# Altium footprint library SOP.PcbLib: 214 footprints (part 4 of 14)
Each footprint in its own frame and in the unit in brackets; x right, y up, seen from the top. Pads: shape width x height; smd on the part's side, far side on the other; paste and mask are expansions set on the pad; w line width, h text height; cw(c..) or ccw(c..) is an arc to the next point about the centre after c.
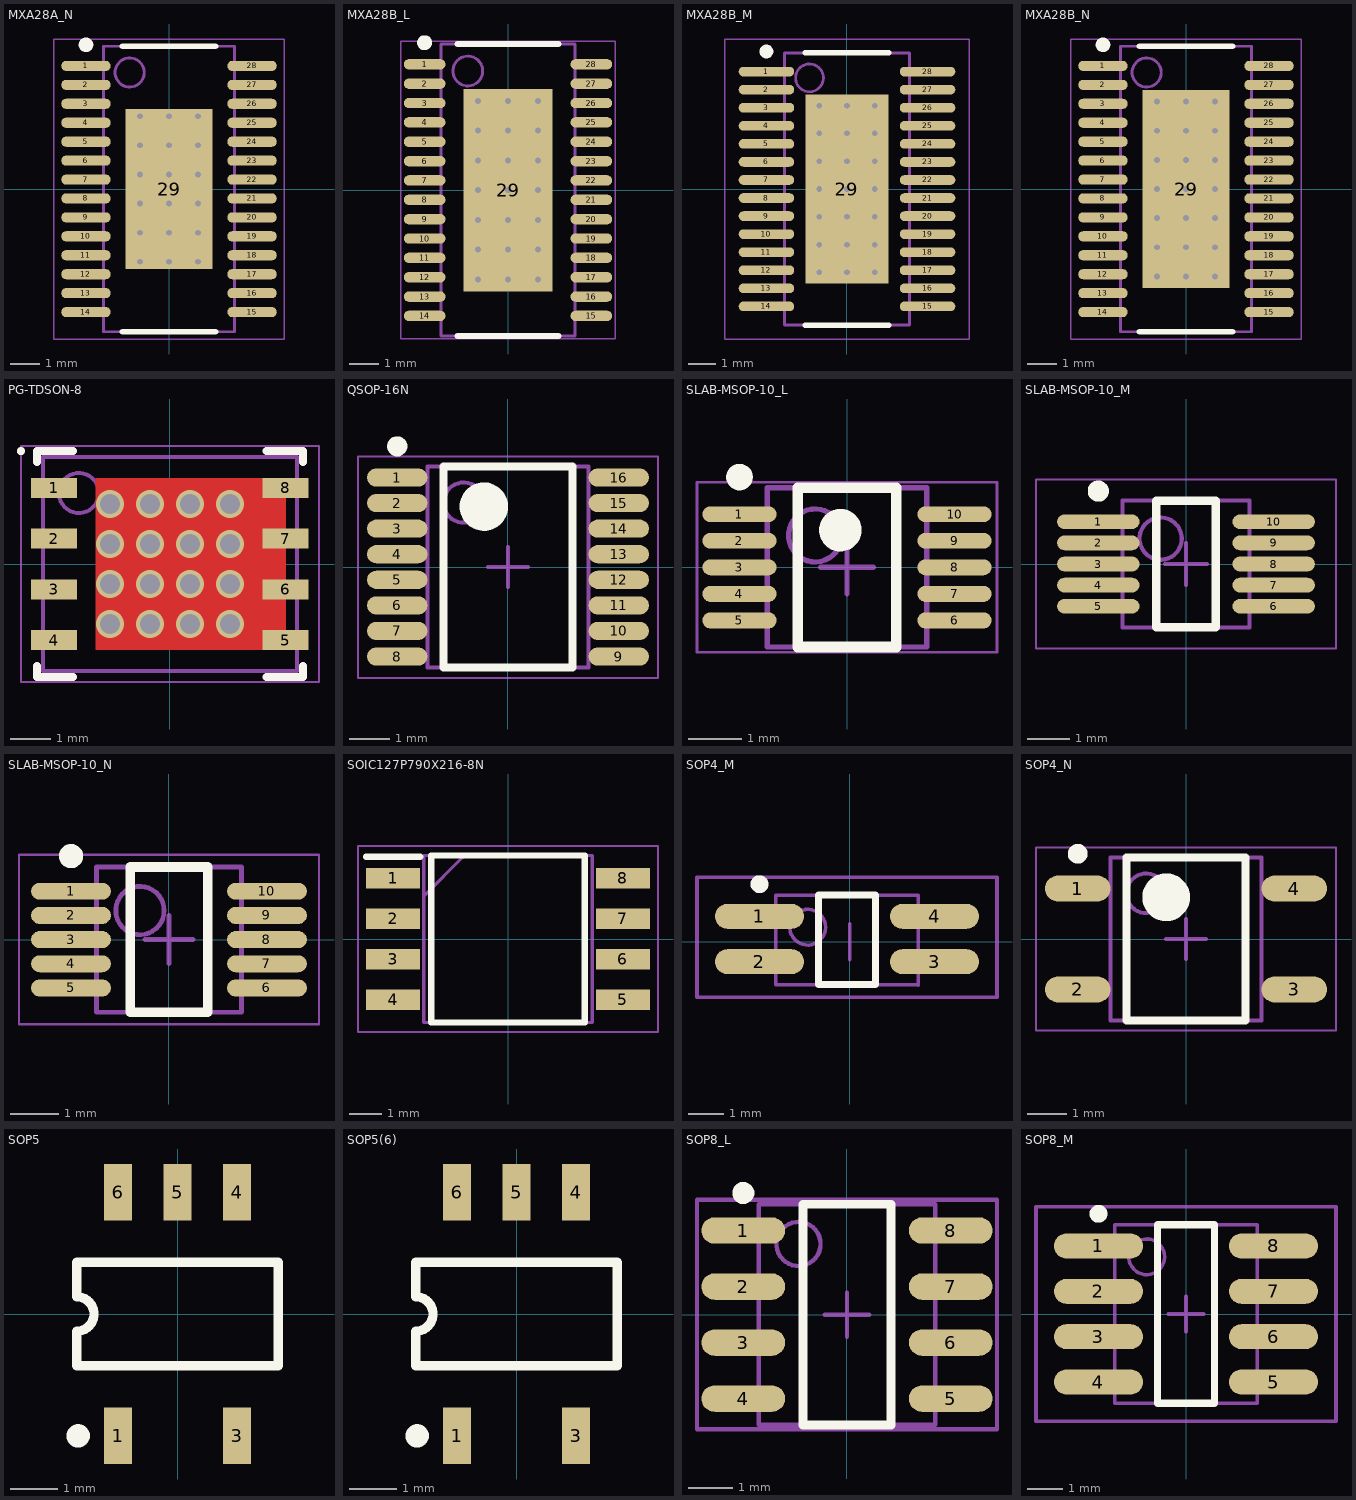
[diagram p3: the footprints below, top view; thin cyan lines are the x and y axes]

## MXA28A_N [mm] "TSOP, 28-Leads, Body 9.7x4.4mm, Pitch 0.65mm, Thermal Pad, IPC Medium Density"
height 1.1
pads (29):
  oval 1.7x0.35 smd: 1(-2.85,4.225) 2(-2.85,3.575) 3(-2.85,2.925) 4(-2.85,2.275) 5(-2.85,1.625) 6(-2.85,0.975) 7(-2.85,0.325) 8(-2.85,-0.325) 9(-2.85,-0.975) 10(-2.85,-1.625) 11(-2.85,-2.275) 12(-2.85,-2.925) 13(-2.85,-3.575) 14(-2.85,-4.225) 15(2.85,-4.225) 16(2.85,-3.575) 17(2.85,-2.925) 18(2.85,-2.275) 19(2.85,-1.625) 20(2.85,-0.975) 21(2.85,-0.325) 22(2.85,0.325) 23(2.85,0.975) 24(2.85,1.625) 25(2.85,2.275) 26(2.85,2.925) 27(2.85,3.575) 28(2.85,4.225)
  rect 3x5.5 smd: 29(0,0)
via 1,2.5 diameter 0.4 hole 0.2
via 0,2.5 diameter 0.4 hole 0.2
via -1,2.5 diameter 0.4 hole 0.2
via -1,0.5 diameter 0.4 hole 0.2
via -1,-0.5 diameter 0.4 hole 0.2
via -1,-1.5 diameter 0.4 hole 0.2
via -1,1.5 diameter 0.4 hole 0.2
via -1,-2.5 diameter 0.4 hole 0.2
via 0,-2.5 diameter 0.4 hole 0.2
via 1,-2.5 diameter 0.4 hole 0.2
via 0,1.5 diameter 0.4 hole 0.2
via 1,1.5 diameter 0.4 hole 0.2
via 1,-1.5 diameter 0.4 hole 0.2
via 0,-1.5 diameter 0.4 hole 0.2
via 1,-0.5 diameter 0.4 hole 0.2
via 0,-0.5 diameter 0.4 hole 0.2
via 1,0.5 diameter 0.4 hole 0.2
via 0,0.5 diameter 0.4 hole 0.2
Top Overlay:
  circle w0.25: c-2.85,4.95 r0.125
  lines w0.2: -1.6,-4.9 1.6,-4.9 ; -1.6,4.9 1.6,4.9
Mechanical 13:
  circle w0.1: c-1.35,4 r0.5
  lines w0.1: -2.25,-4.9 -2.25,4.9 2.25,4.9 2.25,-4.9 -2.25,-4.9
Mechanical 15:
  lines w0.05: -3.95,-5.15 -3.95,5.15 3.95,5.15 3.95,-5.15 -3.95,-5.15
  lines w0.1: -0.5,0 0.5,0 ; 0,-0.5 0,0.5
3D body: height 1.1, standoff 0.05, extent -2.25,-4.9 2.25,4.9

## MXA28B_L [mm] "TSOP, 28-Leads, Body 9.7x4.4mm, Pitch 0.65mm, Thermal Pad, IPC High Density"
height 1.1
pads (29):
  oval 1.4x0.35 smd: 1(-2.8,4.225) 2(-2.8,3.575) 3(-2.8,2.925) 4(-2.8,2.275) 5(-2.8,1.625) 6(-2.8,0.975) 7(-2.8,0.325) 8(-2.8,-0.325) 9(-2.8,-0.975) 10(-2.8,-1.625) 11(-2.8,-2.275) 12(-2.8,-2.925) 13(-2.8,-3.575) 14(-2.8,-4.225) 15(2.8,-4.225) 16(2.8,-3.575) 17(2.8,-2.925) 18(2.8,-2.275) 19(2.8,-1.625) 20(2.8,-0.975) 21(2.8,-0.325) 22(2.8,0.325) 23(2.8,0.975) 24(2.8,1.625) 25(2.8,2.275) 26(2.8,2.925) 27(2.8,3.575) 28(2.8,4.225)
  rect 3x6.8 smd: 29(0,0)
via 1,2 diameter 0.4 hole 0.2
via 0,2 diameter 0.4 hole 0.2
via -1,2 diameter 0.4 hole 0.2
via -1,0 diameter 0.4 hole 0.2
via -1,-1 diameter 0.4 hole 0.2
via -1,-2 diameter 0.4 hole 0.2
via -1,1 diameter 0.4 hole 0.2
via -1,-3 diameter 0.4 hole 0.2
via 0,-3 diameter 0.4 hole 0.2
via 1,-3 diameter 0.4 hole 0.2
via 0,1 diameter 0.4 hole 0.2
via 1,1 diameter 0.4 hole 0.2
via 1,-2 diameter 0.4 hole 0.2
via 0,-2 diameter 0.4 hole 0.2
via 1,-1 diameter 0.4 hole 0.2
via 0,-1 diameter 0.4 hole 0.2
via 1,0 diameter 0.4 hole 0.2
via 0,0 diameter 0.4 hole 0.2
via -1,3 diameter 0.4 hole 0.2
via 0,3 diameter 0.4 hole 0.2
via 1,3 diameter 0.4 hole 0.2
Top Overlay:
  circle w0.25: c-2.8,4.95 r0.125
  lines w0.2: -1.7,-4.9 1.7,-4.9 ; -1.7,4.9 1.7,4.9
Mechanical 13:
  circle w0.1: c-1.35,4 r0.5
  lines w0.1: -2.25,-4.9 2.25,-4.9 2.25,4.9 -2.25,4.9 -2.25,-4.9
Mechanical 15:
  lines w0.05: -3.6,-5 3.6,-5 3.6,5 -3.6,5 -3.6,-5
  lines w0.1: -0.5,0 0.5,0 ; 0,-0.5 0,0.5
3D body: height 1.1, standoff 0.05, extent -2.25,-4.9 2.25,4.9

## MXA28B_M [mm] "TSOP, 28-Leads, Body 9.7x4.4mm, Pitch 0.65mm, Thermal Pad, IPC Low Density"
height 1.1
pads (29):
  oval 2x0.35 smd: 1(-2.9,4.225) 2(-2.9,3.575) 3(-2.9,2.925) 4(-2.9,2.275) 5(-2.9,1.625) 6(-2.9,0.975) 7(-2.9,0.325) 8(-2.9,-0.325) 9(-2.9,-0.975) 10(-2.9,-1.625) 11(-2.9,-2.275) 12(-2.9,-2.925) 13(-2.9,-3.575) 14(-2.9,-4.225) 15(2.9,-4.225) 16(2.9,-3.575) 17(2.9,-2.925) 18(2.9,-2.275) 19(2.9,-1.625) 20(2.9,-0.975) 21(2.9,-0.325) 22(2.9,0.325) 23(2.9,0.975) 24(2.9,1.625) 25(2.9,2.275) 26(2.9,2.925) 27(2.9,3.575) 28(2.9,4.225)
  rect 3x6.8 smd: 29(0,0)
via 1,3 diameter 0.4 hole 0.2
via 0,3 diameter 0.4 hole 0.2
via -1,3 diameter 0.4 hole 0.2
via 0,0 diameter 0.4 hole 0.2
via 1,0 diameter 0.4 hole 0.2
via 0,-1 diameter 0.4 hole 0.2
via 1,-1 diameter 0.4 hole 0.2
via 0,-2 diameter 0.4 hole 0.2
via 1,-2 diameter 0.4 hole 0.2
via 1,1 diameter 0.4 hole 0.2
via 0,1 diameter 0.4 hole 0.2
via 1,-3 diameter 0.4 hole 0.2
via 0,-3 diameter 0.4 hole 0.2
via -1,-3 diameter 0.4 hole 0.2
via -1,1 diameter 0.4 hole 0.2
via -1,-2 diameter 0.4 hole 0.2
via -1,-1 diameter 0.4 hole 0.2
via -1,0 diameter 0.4 hole 0.2
via -1,2 diameter 0.4 hole 0.2
via 0,2 diameter 0.4 hole 0.2
via 1,2 diameter 0.4 hole 0.2
Top Overlay:
  circle w0.25: c-2.9,4.95 r0.125
  lines w0.2: -1.5,-4.9 1.5,-4.9 ; -1.5,4.9 1.5,4.9
Mechanical 13:
  circle w0.1: c-1.35,4 r0.5
  lines w0.1: -2.25,-4.9 -2.25,4.9 2.25,4.9 2.25,-4.9 -2.25,-4.9
Mechanical 15:
  lines w0.05: -4.4,-5.4 -4.4,5.4 4.4,5.4 4.4,-5.4 -4.4,-5.4
  lines w0.1: -0.5,0 0.5,0 ; 0,-0.5 0,0.5
3D body: height 1.1, standoff 0.05, extent -2.25,-4.9 2.25,4.9

## MXA28B_N [mm] "TSOP, 28-Leads, Body 9.7x4.4mm, Pitch 0.65mm, Thermal Pad, IPC Medium Density"
height 1.1
pads (29):
  oval 1.7x0.35 smd: 1(-2.85,4.225) 2(-2.85,3.575) 3(-2.85,2.925) 4(-2.85,2.275) 5(-2.85,1.625) 6(-2.85,0.975) 7(-2.85,0.325) 8(-2.85,-0.325) 9(-2.85,-0.975) 10(-2.85,-1.625) 11(-2.85,-2.275) 12(-2.85,-2.925) 13(-2.85,-3.575) 14(-2.85,-4.225) 15(2.85,-4.225) 16(2.85,-3.575) 17(2.85,-2.925) 18(2.85,-2.275) 19(2.85,-1.625) 20(2.85,-0.975) 21(2.85,-0.325) 22(2.85,0.325) 23(2.85,0.975) 24(2.85,1.625) 25(2.85,2.275) 26(2.85,2.925) 27(2.85,3.575) 28(2.85,4.225)
  rect 3x6.8 smd: 29(0,0)
via 1,2 diameter 0.4 hole 0.2
via 0,2 diameter 0.4 hole 0.2
via -1,2 diameter 0.4 hole 0.2
via -1,0 diameter 0.4 hole 0.2
via -1,-1 diameter 0.4 hole 0.2
via -1,-2 diameter 0.4 hole 0.2
via -1,1 diameter 0.4 hole 0.2
via -1,-3 diameter 0.4 hole 0.2
via 0,-3 diameter 0.4 hole 0.2
via 1,-3 diameter 0.4 hole 0.2
via 0,1 diameter 0.4 hole 0.2
via 1,1 diameter 0.4 hole 0.2
via 1,-2 diameter 0.4 hole 0.2
via 0,-2 diameter 0.4 hole 0.2
via 1,-1 diameter 0.4 hole 0.2
via 0,-1 diameter 0.4 hole 0.2
via 1,0 diameter 0.4 hole 0.2
via 0,0 diameter 0.4 hole 0.2
via -1,3 diameter 0.4 hole 0.2
via 0,3 diameter 0.4 hole 0.2
via 1,3 diameter 0.4 hole 0.2
Top Overlay:
  circle w0.25: c-2.85,4.95 r0.125
  lines w0.2: -1.6,-4.9 1.6,-4.9 ; -1.6,4.9 1.6,4.9
Mechanical 13:
  circle w0.1: c-1.35,4 r0.5
  lines w0.1: -2.25,-4.9 2.25,-4.9 2.25,4.9 -2.25,4.9 -2.25,-4.9
Mechanical 15:
  lines w0.05: -3.95,-5.15 3.95,-5.15 3.95,5.15 -3.95,5.15 -3.95,-5.15
  lines w0.1: -0.5,0 0.5,0 ; 0,-0.5 0,0.5
3D body: height 1.1, standoff 0.05, extent -2.25,-4.9 2.25,4.9

## PG-TDSON-8 [mm] "SON, 8-Leads, Body 5,15x6,15mm, Pitch 1,27mm, Thermal Pad 4,30x3,60mm, IPC Medium Density"
height 1.1
pads (8):
  rect 1.15x0.5 smd: 1(-2.895,1.905) 2(-2.895,0.635) 3(-2.895,-0.635) 4(-2.895,-1.905) 5(2.895,-1.905) 6(2.895,-0.635) 7(2.895,0.635) 8(2.895,1.905)
via -1.5,1.5 diameter 0.7 hole 0.5
via -0.5,1.5 diameter 0.7 hole 0.5
via 0.5,1.5 diameter 0.7 hole 0.5
via 1.5,1.5 diameter 0.7 hole 0.5
via -1.5,0.5 diameter 0.7 hole 0.5
via -0.5,0.5 diameter 0.7 hole 0.5
via 0.5,0.5 diameter 0.7 hole 0.5
via 1.5,0.5 diameter 0.7 hole 0.5
via -1.5,-0.5 diameter 0.7 hole 0.5
via -0.5,-0.5 diameter 0.7 hole 0.5
via 0.5,-0.5 diameter 0.7 hole 0.5
via 1.5,-0.5 diameter 0.7 hole 0.5
via -1.5,-1.5 diameter 0.7 hole 0.5
via -0.5,-1.5 diameter 0.7 hole 0.5
via 0.5,-1.5 diameter 0.7 hole 0.5
via 1.5,-1.5 diameter 0.7 hole 0.5
Top Layer:
  region: 2.9,2.15 2.9,-2.15 -1.85,-2.15 -1.85,2.15
Top Overlay:
  circle w0.1: c-3.725,2.825 r0.05
  lines w0.2: -3.325,-2.555 -3.325,-2.825 -2.42,-2.825 ; -3.325,2.555 -3.325,2.825 -2.42,2.825 ; 2.42,-2.825 3.325,-2.825 3.325,-2.555 ; 2.42,2.825 3.325,2.825 3.325,2.555
Mechanical 13:
  circle w0.1: c-2.275,1.775 r0.5
  lines w0.1: -3.175,-2.675 -3.175,2.675 3.175,2.675 3.175,-2.675 -3.175,-2.675
Mechanical 15:
  lines w0.05: -3.73,-2.95 -3.73,2.95 3.73,2.95 3.73,-2.95 -3.73,-2.95
  lines w0.1: -0.5,0 0.5,0 ; 0,-0.5 0,0.5
3D body "User Library-son_1p27-6x5x1p10-5_8n.step": height 1.1, standoff 0, extent -3.075,-2.575 3.075,2.575

## QSOP-16N [mm] "SOP, 16-Leads, Body 4,89x3,90mm, Pitch 0,64mm, IPC Medium Density"
height 1.55
pads (16):
  oval 1.5x0.45 smd: 1(-2.75,2.222) 2(-2.75,1.587) 3(-2.75,0.953) 4(-2.75,0.318) 5(-2.75,-0.318) 6(-2.75,-0.953) 7(-2.75,-1.587) 8(-2.75,-2.222) 9(2.75,-2.222) 10(2.75,-1.587) 11(2.75,-0.953) 12(2.75,-0.318) 13(2.75,0.318) 14(2.75,0.953) 15(2.75,1.587) 16(2.75,2.222)
Top Overlay:
  circle w0.25: c-2.75,2.997 r0.125
  circle w0.6: c-0.6,1.5 r0.3
  lines w0.2: -1.6,-2.5 -1.6,2.5 1.6,2.5 1.6,-2.5 -1.6,-2.5
Mechanical 13:
  circle w0.1: c-1.1,1.6 r0.5
  lines w0.1: -2,-2.5 -2,2.5 2,2.5 2,-2.5 -2,-2.5
Mechanical 15:
  lines w0.05: -3.725,-2.75 -3.725,2.75 3.725,2.75 3.725,-2.75 -3.725,-2.75
  lines w0.1: -0.5,0 0.5,0 ; 0,-0.5 0,0.5
3D body "SOP64P600X173-16N.step": height 1.73, standoff 0, extent -3.085,-2.575 2.935,2.425

## SLAB-MSOP-10_L [mm] "SOP, 10-Leads, Body 3x3mm, Pitch 0.5mm, IPC High Density"
height 1.1
pads (10):
  oval 1.4x0.3 smd: 1(-2.025,1) 2(-2.025,0.5) 3(-2.025,0) 4(-2.025,-0.5) 5(-2.025,-1) 6(2.025,-1) 7(2.025,-0.5) 8(2.025,0) 9(2.025,0.5) 10(2.025,1)
Top Overlay:
  circle w0.25: c-2.025,1.7 r0.125
  circle w0.4: c-0.125,0.7 r0.2
  lines w0.2: -0.925,-1.5 -0.925,1.5 0.925,1.5 0.925,-1.5 -0.925,-1.5
Mechanical 13:
  circle w0.1: c-0.6,0.6 r0.5
  lines w0.1: -1.5,-1.5 -1.5,1.5 1.5,1.5 1.5,-1.5 -1.5,-1.5
Mechanical 15:
  lines w0.05: -2.825,-1.6 -2.825,1.6 2.825,1.6 2.825,-1.6 -2.825,-1.6
  lines w0.1: -0.5,0 0.5,0 ; 0,-0.5 0,0.5
3D body: height 1.1, standoff 0, extent -1.5,-1.5 1.5,1.5

## SLAB-MSOP-10_M [mm] "SOP, 10-Leads, Body 3x3mm, Pitch 0.5mm, IPC Low Density"
height 1.1
pads (10):
  oval 1.95x0.35 smd: 1(-2.075,1) 2(-2.075,0.5) 3(-2.075,0) 4(-2.075,-0.5) 5(-2.075,-1) 6(2.075,-1) 7(2.075,-0.5) 8(2.075,0) 9(2.075,0.5) 10(2.075,1)
Top Overlay:
  circle w0.25: c-2.075,1.725 r0.125
  lines w0.2: -0.7,-1.5 0.7,-1.5 0.7,1.5 -0.7,1.5 -0.7,-1.5
Mechanical 13:
  circle w0.1: c-0.6,0.6 r0.5
  lines w0.1: -1.5,-1.5 1.5,-1.5 1.5,1.5 -1.5,1.5 -1.5,-1.5
Mechanical 15:
  lines w0.05: -3.55,-2 3.55,-2 3.55,2 -3.55,2 -3.55,-2
  lines w0.1: -0.5,0 0.5,0 ; 0,-0.5 0,0.5
3D body: height 1.1, standoff 0, extent -1.5,-1.5 1.5,1.5

## SLAB-MSOP-10_N [mm] "SOP, 10-Leads, Body 3x3mm, Pitch 0.5mm, IPC Medium Density"
height 1.1
pads (10):
  oval 1.65x0.35 smd: 1(-2.025,1) 2(-2.025,0.5) 3(-2.025,0) 4(-2.025,-0.5) 5(-2.025,-1) 6(2.025,-1) 7(2.025,-0.5) 8(2.025,0) 9(2.025,0.5) 10(2.025,1)
Top Overlay:
  circle w0.25: c-2.025,1.725 r0.125
  lines w0.2: -0.8,-1.5 0.8,-1.5 0.8,1.5 -0.8,1.5 -0.8,-1.5
Mechanical 13:
  circle w0.1: c-0.6,0.6 r0.5
  lines w0.1: -1.5,-1.5 1.5,-1.5 1.5,1.5 -1.5,1.5 -1.5,-1.5
Mechanical 15:
  lines w0.05: -3.1,-1.75 3.1,-1.75 3.1,1.75 -3.1,1.75 -3.1,-1.75
  lines w0.1: -0.5,0 0.5,0 ; 0,-0.5 0,0.5
3D body: height 1.1, standoff 0, extent -1.5,-1.5 1.5,1.5

## SOIC127P790X216-8N [mm]
pads (8):
  rect 1.7x0.65 smd: 1(-3.6,1.905) 2(-3.6,0.635) 3(-3.6,-0.635) 4(-3.6,-1.905) 5(3.6,-1.905) 6(3.6,-0.635) 7(3.6,0.635) 8(3.6,1.905)
Top Overlay:
  lines w0.2: -4.45,2.58 -2.75,2.58 ; -2.4,-2.615 -2.4,2.615 2.4,2.615 2.4,-2.615 -2.4,-2.615
Mechanical 13:
  lines w0.1: -2.64,1.345 -1.37,2.615 ; -2.64,-2.615 -2.64,2.615 2.64,2.615 2.64,-2.615 -2.64,-2.615
Mechanical 15:
  lines w0.05: -4.7,-2.915 -4.7,2.915 4.7,2.915 4.7,-2.915 -4.7,-2.915
3D body "GD25Q128ESIGR.stp": height 2.16, standoff 0, extent -3.95,-2.615 3.95,2.615

## SOP4_M [mm] "SOIC, 8-Leads, Body 4.9x3.9mm, Pitch 1.27mm, IPC Low Density"
height 1.76
pads (4):
  oval 2.5x0.7 smd: 1(-2.526,0.711) 2(-2.526,-0.559) 3(2.374,-0.559) 4(2.374,0.711)
Top Overlay:
  circle w0.25: c-2.526,1.611 r0.125
  lines w0.2: -0.876,-1.194 -0.876,1.306 0.724,1.306 0.724,-1.194 -0.876,-1.194
Mechanical 13:
  circle w0.1: c-1.176,0.406 r0.5
  lines w0.1: -2.076,-1.205 -1.076,-1.205 0.924,-1.205 1.924,-1.205 ; -2.076,-1.194 -2.076,1.306 1.924,1.306 1.924,-1.219
Mechanical 15:
  lines w0.1: -0.576,-1.194 0.424,-1.194 ; 0,-0.5 0,0.5 ; -4.276,-1.549 -4.276,1.806 4.124,1.806 4.124,-1.549 -4.276,-1.549
3D body: height 1.75, standoff 0, extent -2.076,-1.194 1.924,1.306

## SOP4_N [mm] "SOP, 4-Leads, Body 4.08x3.81mm, Pitch 2.54mm, IPC Medium Density"
height 2.55
pads (4):
  oval 1.65x0.65 smd: 1(-2.725,1.27) 2(-2.725,-1.27) 3(2.725,-1.27) 4(2.725,1.27)
Top Overlay:
  circle w0.6: c-0.5,1.05 r0.3
  circle w0.25: c-2.725,2.145 r0.125
  lines w0.2: -1.5,-2.05 1.5,-2.05 1.5,2.05 -1.5,2.05 -1.5,-2.05
Mechanical 13:
  circle w0.1: c-1,1.15 r0.5
  lines w0.1: -1.9,-2.05 1.9,-2.05 1.9,2.05 -1.9,2.05 -1.9,-2.05
Mechanical 15:
  lines w0.05: -3.775,-2.3 3.775,-2.3 3.775,2.3 -3.775,2.3 -3.775,-2.3
  lines w0.1: -0.5,0 0.5,0 ; 0,-0.5 0,0.5
3D body "SOP4_N.step": height 2.55, standoff 0, extent -3.1,-2.05 3.1,2.05

## SOP5 [mm] "Small Outline; 6 Leads (1 Absent); Body Width 4.4 mm; Pitch 1.27 mm"
height 2.4
pads (5):
  rect 0.6x1.2 smd: 1(-1.27,-2.6) 3(1.27,-2.6) 4(1.27,2.6) 5(0,2.6) 6(-1.27,2.6)
Top Overlay:
  circle w0.25: c-2.12,-2.6 r0.125
  lines w0.2: -2.15,-1.1 2.15,-1.1 2.15,1.1 -2.15,1.1 -2.15,0.367 cw(c-2.15,0) -2.15,-0.367 -2.15,-1.1

## SOP5(6) [mm] "Small Outline; 6 Leads (1 Absent); Body Width 4.4 mm; Pitch 1.27 mm"
height 2.4
pads (5):
  rect 0.6x1.2 smd: 1(-1.27,-2.6) 3(1.27,-2.6) 4(1.27,2.6) 5(0,2.6) 6(-1.27,2.6)
Top Overlay:
  circle w0.25: c-2.12,-2.6 r0.125
  lines w0.2: -2.15,-1.1 -2.15,-0.367 ccw(c-2.15,0) -2.15,0.367 -2.15,1.1 2.15,1.1 2.15,-1.1 -2.15,-1.1

## SOP8_L [mm] "SOIC, 8-Leads, Body 4.9x3.9mm, Pitch 1.27mm, IPC High Density"
height 1.76
pads (8):
  oval 1.9x0.6 smd: 1(-2.35,1.905) 2(-2.35,0.635) 3(-2.35,-0.635) 4(-2.35,-1.905) 5(2.35,-1.905) 6(2.35,-0.635) 7(2.35,0.635) 8(2.35,1.905)
Top Overlay:
  circle w0.25: c-2.35,2.755 r0.125
  lines w0.2: -1,-2.5 -1,2.5 1,2.5 1,-2.5 -1,-2.5
Mechanical 13:
  circle w0.1: c-1.1,1.6 r0.5
  lines w0.1: -2,-2.5 -2,2.5 2,2.5 2,-2.5 -2,-2.5
Mechanical 15:
  lines w0.1: -0.5,0 0.5,0 ; 0,-0.5 0,0.5 ; -3.4,-2.6 -3.4,2.6 3.4,2.6 3.4,-2.6 -3.4,-2.6
3D body: height 1.75, standoff 0, extent -2,-2.5 2,2.5

## SOP8_M [mm] "SOIC, 8-Leads, Body 4.9x3.9mm, Pitch 1.27mm, IPC Low Density"
height 1.76
pads (8):
  oval 2.5x0.7 smd: 1(-2.45,1.905) 2(-2.45,0.635) 3(-2.45,-0.635) 4(-2.45,-1.905) 5(2.45,-1.905) 6(2.45,-0.635) 7(2.45,0.635) 8(2.45,1.905)
Top Overlay:
  circle w0.25: c-2.45,2.805 r0.125
  lines w0.2: -0.8,-2.5 -0.8,2.5 0.8,2.5 0.8,-2.5 -0.8,-2.5
Mechanical 13:
  circle w0.1: c-1.1,1.6 r0.5
  lines w0.1: -2,-2.5 -2,2.5 2,2.5 2,-2.5 -2,-2.5
Mechanical 15:
  lines w0.1: -0.5,0 0.5,0 ; 0,-0.5 0,0.5 ; -4.2,-3 -4.2,3 4.2,3 4.2,-3 -4.2,-3
3D body: height 1.75, standoff 0, extent -2,-2.5 2,2.5